# Altium footprint library lib.PcbLib: 43 footprints (part 3 of 3)
Each footprint in its own frame and in the unit in brackets; x right, y up, seen from the top. Pads: shape width x height; smd on the part's side, far side on the other; paste and mask are expansions set on the pad; w line width, h text height; cw(c..) or ccw(c..) is an arc to the next point about the centre after c.
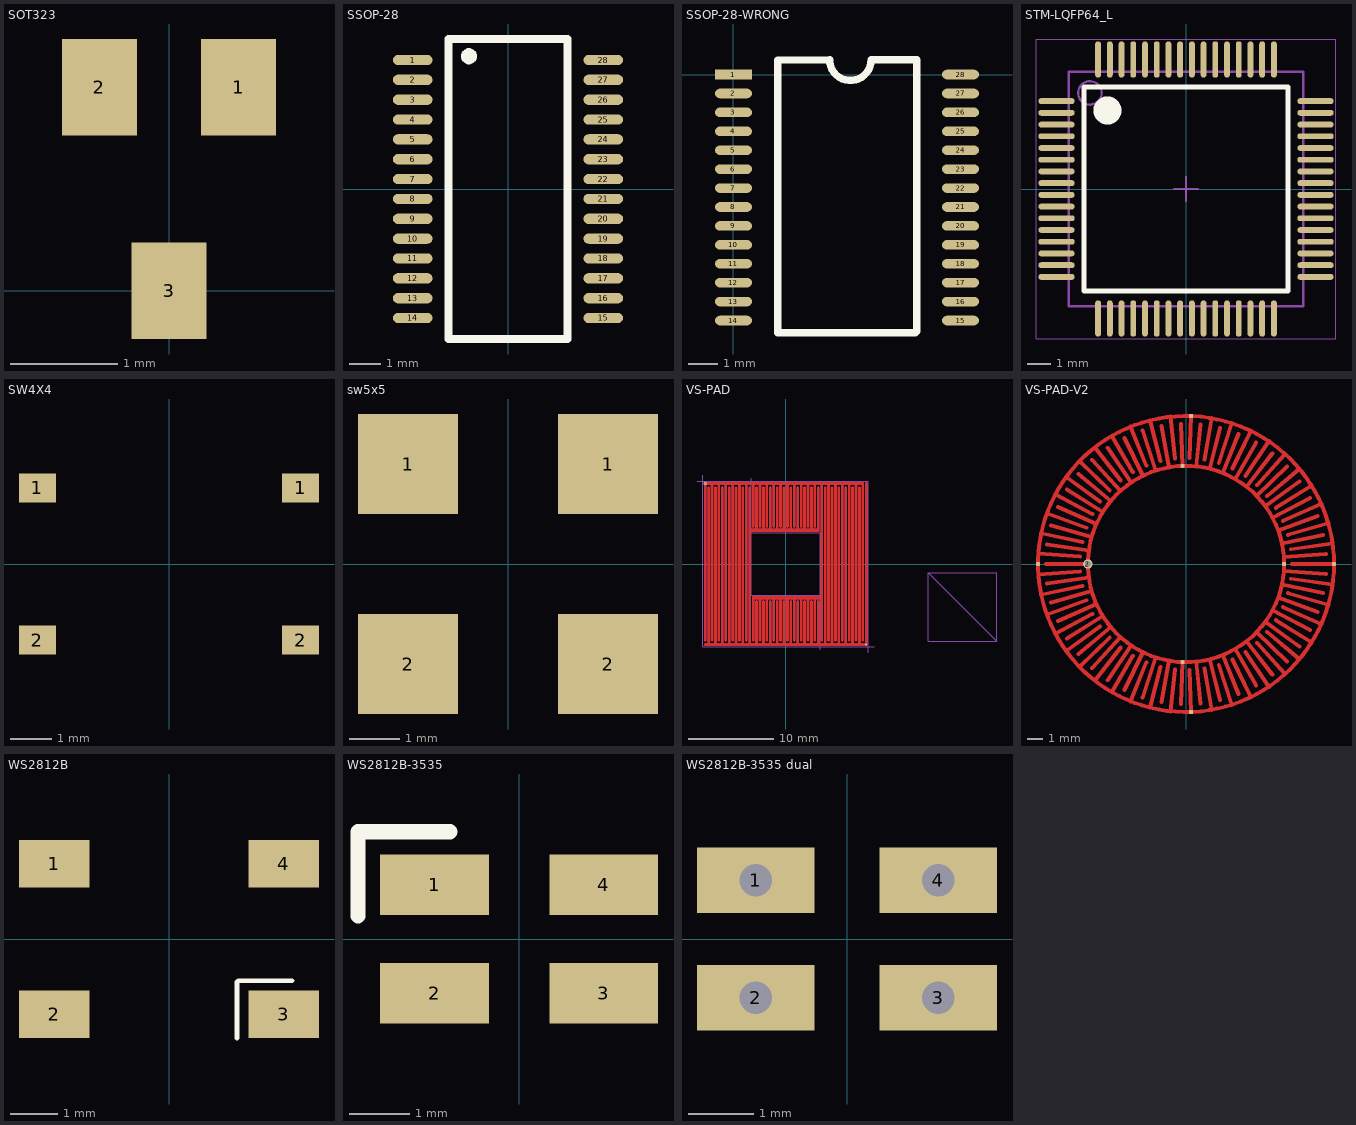
[diagram p2: the footprints below, top view; thin cyan lines are the x and y axes]

## SOT323 [mm]
pads (3):
  rect 0.7x0.9 smd: 1(0.65,1.9) 2(-0.65,1.9) 3(0,0)

## SSOP-28 [mm]
pads (28):
  oval 1.27x0.33 smd: 1(-3.05,4.127) 2(-3.05,3.492) 3(-3.05,2.857) 4(-3.05,2.222) 5(-3.05,1.587) 6(-3.05,0.953) 7(-3.05,0.318) 8(-3.05,-0.318) 9(-3.05,-0.953) 10(-3.05,-1.587) 11(-3.05,-2.222) 12(-3.05,-2.857) 13(-3.05,-3.492) 14(-3.05,-4.127) 15(3.05,-4.127) 16(3.05,-3.492) 17(3.05,-2.857) 18(3.05,-2.222) 19(3.05,-1.587) 20(3.05,-0.953) 21(3.05,-0.318) 22(3.05,0.318) 23(3.05,0.953) 24(3.05,1.587) 25(3.05,2.222) 26(3.05,2.857) 27(3.05,3.492) 28(3.05,4.127)
Top Overlay:
  region: -1.25,4 -1.3,4 -1.392,4.038 -1.462,4.108 -1.5,4.2 -1.5,4.25 -1.5,4.3 -1.462,4.392 -1.392,4.462 -1.3,4.5 -1.25,4.5 -1.2,4.5 -1.108,4.462 -1.038,4.392 -1,4.3 -1,4.25 -1,4.2 -1.038,4.108 -1.108,4.038 -1.2,4
  lines w0.254: -1.9,-4.8 1.9,-4.8 1.9,4.8 -1.9,4.8 -1.9,-4.8
3D body "SSOP-28_3.9x9.9mm_P0.635mm v1.step": height 1.1, standoff 0, extent -3.1,-4.95 3.1,4.95

## SSOP-28-WRONG [mm]
pads (28):
  rect 1.27x0.33 smd: 1(0,0)
  oval 1.27x0.33 smd: 2(0,-0.65) 3(0,-1.3) 4(0,-1.95) 5(0,-2.6) 6(0,-3.25) 7(0,-3.9) 8(0,-4.55) 9(0,-5.2) 10(0,-5.85) 11(0,-6.5) 12(0,-7.15) 13(0,-7.8) 14(0,-8.45) 15(7.8,-8.45) 16(7.8,-7.8) 17(7.8,-7.15) 18(7.8,-6.5) 19(7.8,-5.85) 20(7.8,-5.2) 21(7.8,-4.55) 22(7.8,-3.9) 23(7.8,-3.25) 24(7.8,-2.6) 25(7.8,-1.95) 26(7.8,-1.3) 27(7.8,-0.65) 28(7.8,0)
Top Overlay:
  lines w0.254: 1.524,-8.865 6.248,-8.865 6.299,-8.814 6.299,0.5 6.291,0.508 4.728,0.508 cw(c4.015,0.508) 3.302,0.508 3.294,0.5 1.524,0.5 1.524,-8.865

## STM-LQFP64_L [mm]
pads (64):
  oval 1.55x0.25 smd: 1(-5.525,3.75) 2(-5.525,3.25) 3(-5.525,2.75) 4(-5.525,2.25) 5(-5.525,1.75) 6(-5.525,1.25) 7(-5.525,0.75) 8(-5.525,0.25) 9(-5.525,-0.25) 10(-5.525,-0.75) 11(-5.525,-1.25) 12(-5.525,-1.75) 13(-5.525,-2.25) 14(-5.525,-2.75) 15(-5.525,-3.25) 16(-5.525,-3.75) 33(5.525,-3.75) 34(5.525,-3.25) 35(5.525,-2.75) 36(5.525,-2.25) 37(5.525,-1.75) 38(5.525,-1.25) 39(5.525,-0.75) 40(5.525,-0.25) 41(5.525,0.25) 42(5.525,0.75) 43(5.525,1.25) 44(5.525,1.75) 45(5.525,2.25) 46(5.525,2.75) 47(5.525,3.25) 48(5.525,3.75)
  oval 0.25x1.55 smd: 17(-3.75,-5.525) 18(-3.25,-5.525) 19(-2.75,-5.525) 20(-2.25,-5.525) 21(-1.75,-5.525) 22(-1.25,-5.525) 23(-0.75,-5.525) 24(-0.25,-5.525) 25(0.25,-5.525) 26(0.75,-5.525) 27(1.25,-5.525) 28(1.75,-5.525) 29(2.25,-5.525) 30(2.75,-5.525) 31(3.25,-5.525) 32(3.75,-5.525) 49(3.75,5.525) 50(3.25,5.525) 51(2.75,5.525) 52(2.25,5.525) 53(1.75,5.525) 54(1.25,5.525) 55(0.75,5.525) 56(0.25,5.525) 57(-0.25,5.525) 58(-0.75,5.525) 59(-1.25,5.525) 60(-1.75,5.525) 61(-2.25,5.525) 62(-2.75,5.525) 63(-3.25,5.525) 64(-3.75,5.525)
Top Overlay:
  circle w0.6: c-3.35,3.35 r0.3
  lines w0.2: -4.35,-4.35 -4.35,4.35 4.35,4.35 4.35,-4.35 -4.35,-4.35
Mechanical 13:
  circle w0.1: c-4.1,4.1 r0.5
  lines w0.1: -5,-5 -5,5 5,5 5,-5 -5,-5
Mechanical 15:
  lines w0.05: -6.4,-6.4 -6.4,6.4 6.4,6.4 6.4,-6.4 -6.4,-6.4
  lines w0.1: -0.5,0 0.5,0 ; 0,-0.5 0,0.5
3D body "LQFP64 v1.step": height 1.6, standoff 0.02, extent -6.069,-6.069 6.069,6.069

## SW4X4 [mm]
pads (4):
  rect 0.9x0.7 smd: 1(-3.2,1.85) 1(3.2,1.85) 2(-3.2,-1.85) 2(3.2,-1.85)

## sw5x5 [mm]
pads (4):
  rect 2x2 smd: 1(-2,2) 1(2,2) 2(-2,-2) 2(2,-2)
Mechanical 1:
  region: -0.05,-0.15
3D body "FN Button.step": height 1.5, standoff 0, extent -2.55,-2.55 2.55,2.55
3D body: height 0.25, standoff 0, extent 0,0.05 0,0.05

## VS-PAD [mil]
pads (2):
  round 15 hole 10: 1(-370.08,370.08)
  round 10 smd: 2(370.08,-370.08)
Top Layer:
  region: 331 vertices and 0 holes, not listed, extent -375.09,-375.09 375.09,375.09
  region: 327 vertices and 0 holes, not listed, extent -375.09,-354.94 359.35,375.09
Top Solder:
  region: -380.34,-380.08 -380.34,379.81 -407.32,379.81 -407.43,379.81 -407.59,379.97 -407.59,380.19 -407.43,380.34 -407.32,380.34 -380.34,380.34 -380.34,407.32 -380.34,407.43 -380.19,407.59 -379.97,407.59 -379.81,407.43 -379.81,407.32 -379.81,380.34 -157.75,380.34 -157.75,393.7 -157.75,393.81 -157.59,393.97 -157.37,393.97 -157.22,393.81 -157.22,393.7 -157.22,380.34 380.08,380.34 380.13,380.34 380.23,380.3 380.3,380.23 380.34,380.13 380.34,380.08 380.34,380.03 380.3,379.93 380.23,379.85 380.13,379.81 380.08,379.81 -157.22,379.81 -157.22,-142.22 157.22,-142.22 157.22,144.61 157.22,144.72 157.37,144.87 157.59,144.87 157.75,144.72 157.75,144.61 157.75,-379.81 407.32,-379.81 407.38,-379.81 407.47,-379.85 407.55,-379.93 407.59,-380.03 407.59,-380.08 407.59,-380.13 407.55,-380.23 407.47,-380.3 407.38,-380.34 407.32,-380.34 157.75,-380.34 157.75,-393.7 157.75,-393.81 157.59,-393.97 157.37,-393.97 157.22,-393.81 157.22,-393.7 157.22,-380.34 -380.08,-380.34 -380.13,-380.34 -380.23,-380.3 -380.3,-380.23 -380.34,-380.13
  region: -380.08,-380.34 -380.19,-380.34 -380.34,-380.19 -380.34,-379.97 -380.19,-379.81 -380.08,-379.81 157.22,-379.81 157.22,142.22 -157.22,142.22 -157.22,-144.61 -157.22,-144.72 -157.37,-144.87 -157.59,-144.87 -157.75,-144.72 -157.75,-144.61 -157.75,379.81 -407.32,379.81 -407.43,379.81 -407.59,379.97 -407.59,380.19 -407.43,380.34 -407.32,380.34 -157.75,380.34 -157.75,393.7 -157.75,393.81 -157.59,393.97 -157.37,393.97 -157.22,393.81 -157.22,393.7 -157.22,380.34 380.08,380.34 380.13,380.34 380.23,380.3 380.3,380.23 380.34,380.13 380.34,380.08 380.34,-379.81 407.32,-379.81 407.38,-379.81 407.47,-379.85 407.55,-379.93 407.59,-380.03 407.59,-380.08 407.59,-380.13 407.55,-380.23 407.47,-380.3 407.38,-380.34 407.32,-380.34 380.34,-380.34 380.34,-407.32 380.34,-407.43 380.19,-407.59 379.97,-407.59 379.81,-407.43 379.81,-407.32 379.81,-380.34 157.75,-380.34 157.75,-393.7 157.75,-393.81 157.59,-393.97 157.37,-393.97 157.22,-393.81 157.22,-393.7 157.22,-380.34
Mechanical 1:
  lines w0.5: -407.32,380.08 380.08,380.08 380.08,-407.32 ; -380.08,407.32 -380.08,-380.08 407.32,-380.08 ; -157.48,-144.61 -157.48,393.7 ; -157.48,-142.48 157.48,-142.48 ; -157.48,142.48 157.48,142.48 ; 157.48,-393.7 157.48,144.61 ; 655.51,-354.33 655.51,-39.37 970.47,-39.37 970.47,-354.33 655.51,-354.33
  lines w1.97: 655.51,-39.37 970.47,-354.33
Mechanical 2:
  lines w10: -370.08,-370.08 370.08,-370.08 370.08,370.08 ; -370.08,-349.92 -370.08,370.08 354.33,370.08 354.33,-349.92 ; -354.33,-370.08 -354.33,349.92 ; -338.58,-349.92 -338.58,370.08 ; -322.83,-370.08 -322.83,349.92 ; -307.09,-349.92 -307.09,370.08 ; -291.34,-370.08 -291.34,349.92 ; -275.59,-349.92 -275.59,370.08 ; -259.84,-370.08 -259.84,349.92 ; -244.09,-349.92 -244.09,370.08 ; -228.35,-370.08 -228.35,349.92 ; -212.6,-349.92 -212.6,370.08 ; -196.85,-370.08 -196.85,349.92 ; -181.1,-349.92 -181.1,370.08 ; -165.35,-370.08 -165.35,349.92 ; -165.35,152.48 149.61,152.48 149.61,349.92 ; -165.35,157.48 149.61,157.48 ; -149.61,-349.92 -149.61,-152.48 165.36,-152.48 ; -149.61,-157.48 165.36,-157.48 ; -149.61,172.48 -149.61,370.08 ; -133.86,-370.08 -133.86,-172.48 ; -133.86,157.48 -133.86,349.92 ; -118.11,-349.92 -118.11,-157.48 ; -118.11,172.48 -118.11,370.08 ; -102.36,-370.08 -102.36,-172.48 ; -102.36,157.48 -102.36,349.92 ; -86.61,-349.92 -86.61,-157.48 ; -86.61,172.48 -86.61,370.08 ; -70.87,-370.08 -70.87,-172.48 ; -70.87,157.48 -70.87,349.92 ; -55.12,-349.92 -55.12,-157.48 ; -55.12,172.48 -55.12,370.08 ; -39.37,-370.08 -39.37,-172.48 ; -39.37,157.48 -39.37,349.92 ; -23.62,-349.92 -23.62,-157.48 ; -23.62,172.48 -23.62,370.08 ; -7.87,-370.08 -7.87,-172.48 ; -7.87,157.48 -7.87,349.92 ; 7.87,-349.92 7.87,-157.48 ; 7.87,172.48 7.87,370.08 ; 23.62,-370.08 23.62,-172.48 ; 23.62,157.48 23.62,349.92 ; 39.37,-349.92 39.37,-157.48 ; 39.37,172.48 39.37,370.08 ; 55.12,-370.08 55.12,-172.48 ; 55.12,157.48 55.12,349.92 ; 70.87,-349.92 70.87,-157.48 ; 70.87,172.48 70.87,370.08 ; 86.61,-370.08 86.61,-172.48 ; 86.61,157.48 86.61,349.92 ; 102.36,-349.92 102.36,-157.48 ; 102.36,172.48 102.36,370.08 ; 118.11,-370.08 118.11,-172.48 ; 118.11,157.48 118.11,349.92 ; 133.86,-349.92 133.86,-157.48 ; 133.86,172.48 133.86,370.08 ; 149.61,-370.08 149.61,-172.48 ; 165.35,-349.92 165.35,370.08 ; 181.1,-370.08 181.1,349.92 ; 196.85,-349.92 196.85,370.08 ; 212.6,-370.08 212.6,349.92 ; 228.35,-349.92 228.35,370.08 ; 244.1,-370.08 244.1,349.92 ; 259.84,-349.92 259.84,370.08 ; 275.59,-370.08 275.59,349.92 ; 291.34,-349.92 291.34,370.08 ; 307.09,-370.08 307.09,349.92 ; 322.84,-349.92 322.84,370.08 ; 338.58,-370.08 338.58,349.92

## VS-PAD-V2 [mil]
pads (9):
  rrect50% 10x10 smd paste+0 mask+0: 1(-374.02,0) 1(13.06,-374.04) 1(13.06,374.04) 1(374.02,0) 2(-248.03,0) 2(-8.66,247.88) 2(-8.66,-247.88) 2(248.03,0)
  round 23.62 hole 15 paste+0 mask+0: 2(-248.03,0)
Top Layer:
  circle w10: c0,0 r248.03
  circle w10: c0,0 r374.02
  lines w10: -373.36,-26.11 -267.24,-18.69 ; -373.36,26.11 -267.24,18.69 ; -366.09,-77.81 -262.04,-55.7 ; -366.09,77.81 -262.04,55.7 ; -354.33,0 -248.03,0 ; -351.7,-128.01 -251.74,-91.63 ; -351.7,128.01 -251.74,91.63 ; -350.88,-49.31 -245.62,-34.52 ; -350.88,49.31 -245.62,34.52 ; -340.6,-97.67 -238.42,-68.37 ; -340.6,97.67 -238.42,68.37 ; -330.46,-175.71 -236.54,-125.77 ; -330.46,175.71 -236.54,125.77 ; -323.7,-144.12 -226.59,-100.88 ; -323.7,144.12 -226.59,100.88 ; -302.79,-219.99 -216.73,-157.47 ; -302.79,219.99 -216.73,157.47 ; -300.49,-187.77 -210.34,-131.44 ; -300.49,187.77 -210.34,131.44 ; -271.43,-227.76 -190,-159.43 ; -271.43,227.76 -190,159.43 ; -269.23,-259.99 -192.71,-186.1 ; -269.23,259.99 -192.71,186.1 ; -237.09,-263.32 -165.97,-184.32 ; -237.09,263.32 -165.97,184.32 ; -230.42,-294.93 -164.93,-211.11 ; -230.42,294.93 -164.93,211.11 ; -198.14,-293.75 -138.7,-205.63 ; -198.14,293.75 -138.7,205.63 ; -187.13,-324.13 -133.95,-232.01 ; -187.13,324.13 -133.95,232.01 ; -155.33,-318.47 -108.73,-222.93 ; -155.33,318.47 -108.73,222.93 ; -140.2,-347.02 -100.36,-248.39 ; -140.2,347.02 -100.36,248.39 ; -109.49,-336.99 -76.65,-235.89 ; -109.49,336.99 -76.65,235.89 ; -90.54,-363.15 -64.81,-259.94 ; -90.54,363.15 -64.81,259.94 ; -61.53,-348.95 -43.07,-244.26 ; -61.53,348.95 -43.07,244.26 ; -39.12,-372.22 -28,-266.43 ; -39.12,372.22 -28,266.43 ; -12.37,-354.11 -8.66,-247.88 ; -12.37,354.11 -8.66,247.88 ; 9.35,-267.73 13.06,-374.04 ; 9.35,267.73 13.06,374.04 ; 25.93,-246.67 37.04,-352.39 ; 25.93,246.67 37.04,352.39 ; 46.52,-263.83 64.99,-368.58 ; 46.52,263.83 64.99,368.58 ; 60,-240.66 85.72,-343.81 ; 60,240.66 85.72,343.81 ; 82.78,-254.79 115.66,-355.95 ; 82.78,254.79 115.66,355.95 ; 92.91,-229.97 132.73,-328.53 ; 92.91,229.97 132.73,328.53 ; 117.44,-240.78 164.07,-336.39 ; 117.44,240.78 164.07,336.39 ; 124.02,-214.8 177.17,-306.86 ; 124.02,214.8 177.17,306.86 ; 149.81,-222.1 209.29,-310.28 ; 149.81,222.1 209.29,310.28 ; 152.7,-195.45 218.15,-279.22 ; 152.7,195.45 218.15,279.22 ; 178.42,-172.3 254.88,-246.14 ; 178.42,172.3 254.88,246.14 ; 179.26,-199.09 250.43,-278.14 ; 179.26,199.09 250.43,278.14 ; 200.66,-145.79 286.66,-208.27 ; 200.66,145.79 286.66,208.27 ; 205.22,-172.2 286.71,-240.58 ; 205.22,172.2 286.71,240.58 ; 219,-116.44 312.86,-166.35 ; 219,116.44 312.86,166.35 ; 227.19,-141.96 317.4,-198.33 ; 227.19,141.96 317.4,198.33 ; 233.07,-84.83 332.96,-121.19 ; 233.07,84.83 332.96,121.19 ; 242.61,-51.57 346.59,-73.67 ; 242.61,51.57 346.59,73.67 ; 244.74,-108.96 341.91,-152.23 ; 244.74,108.96 341.91,152.23 ; 247.43,-17.3 353.47,-24.72 ; 247.43,17.3 353.47,24.72 ; 257.52,-73.84 359.77,-103.16 ; 257.52,73.84 359.77,103.16 ; 265.29,-37.28 370.63,-52.09 ; 265.29,37.28 370.63,52.09 ; 267.9,0 374.27,0

## WS2812B [mil] "3535"
pads (4):
  rect 59.1x39.4 smd: 1(-96,63) 2(-96,-63) 3(96,-63) 4(96,63)
Top Overlay:
  lines w3.94: 57,-83 57,-37 ; 57,-36 58,-35 103,-35
3D body "WS2812B v2.step": height 59.06, standoff -7.87, extent -105.31,-97.44 105.32,97.44

## WS2812B-3535 [mm] "3535"
pads (4):
  rect 1.8x1 smd: 1(-1.4,0.9) 2(-1.4,-0.9) 3(1.4,-0.9) 4(1.4,0.9)
Top Overlay:
  lines w0.254: -2.667,0.381 -2.667,1.778 -1.143,1.778

## WS2812B-3535 dual [mm] "3535"
pads (4):
  rect 1.8x1 / inner rect 0.5x0.5 / far side rect 0.5x0.5 hole 0.5 square: 1(-1.4,0.9)
  rect 1.8x1 / inner round 0.5 / far side round 0.5 hole 0.5: 2(-1.4,-0.9) 3(1.4,-0.9)
  rect 1.8x1 / inner rect 0.5x0.5 / far side rect 1.8x1 hole 0.5: 4(1.4,0.9)